# EAGLE library part TPS61021A (library IC_Power-Management)
3-A Boost Converter with 0.5-V Ultra Low Input Voltage Datasheet <https://www.ti.com/lit/ds/symlink/tps61021a.pdf?ts=1593533952872&ref_url=https%253A%252F%252Fwww.ti.com%252Fstore%252Fti%252Fen%252Fp%252Fproduct%252F%253Fp%253DTPS61021ADSGR>
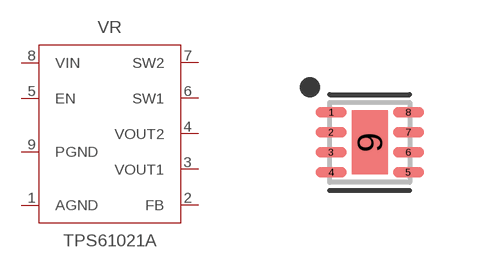
[diagram p7: symbol with the pads of SON50P200X200X80-9T90X160N; footprint SON50P200X200X80-9T90X160N]

Designator prefix VR

## TPS61021ADSGR_SON8 (CATEGORY: IC_Power-Management; DESCRIPTION: IC REG BOOST ADJUSTABLE 3A 8WSON; INPUT_VOLTAGE: 0.5V to 4.4V; MANUFACTURER: TI; MPN: TPS61021ADSGR; OPERATING_TEMP: -40 to 125; OUTPUT_VOLTAGE: 1.8V to 4V; PART_STATUS: Active; ROHS_COMPLIANT: Yes; SUB-CATEGORY: Voltage Regulator; TOPOLOGY: BOOST; TYPE: DC-DC Switching; VALUE: TPS61021A), TPS61021ADSGT_SON8 (CATEGORY: IC_Power-Management; DESCRIPTION: IC REG BOOST ADJUSTABLE 3A 8WSON; INPUT_VOLTAGE: 0.5V to 4.4V; MANUFACTURER: TI; MPN: TPS61021ADSGT; OPERATING_TEMP: -40 to 125; OUTPUT_VOLTAGE: 1.8V to 4V; PART_STATUS: Active; ROHS_COMPLIANT: Yes; SUB-CATEGORY: Voltage Regulator; TOPOLOGY: BOOST; TYPE: DC-DC Switching; VALUE: TPS61021A)  [SON50P200X200X80-9T90X160N]
1  AGND  pwr
2  FB
3  VOUT1  pwr
4  VOUT2  pwr
5  EN  in
6  SW1  pwr
7  SW2  pwr
8  VIN  in
9  PGND  pwr

## Footprint SON50P200X200X80-9T90X160N (pad centres in mm)
8-SON (DFN), 0.50 mm pitch, 2.00 X 2.00 X 0.80 mm body, 1.60 X 0.90 mm thermal pad 8-pin SON (DFN) package with 0.50 mm pitch with body size 2.00 X 2.00 X 0.80 mm and thermal pad size 1.60 X 0.90 mm
smd 0.778 x 0.264: 1 -0.967,0.75; 2 -0.967,0.25; 3 -0.967,-0.25; 4 -0.967,-0.75; 5 0.967,-0.75; 6 0.967,-0.25; 7 0.967,0.25; 8 0.967,0.75
smd 0.9 x 1.6: 9 0,0